# EAGLE library part INT5500 (library Traficon)
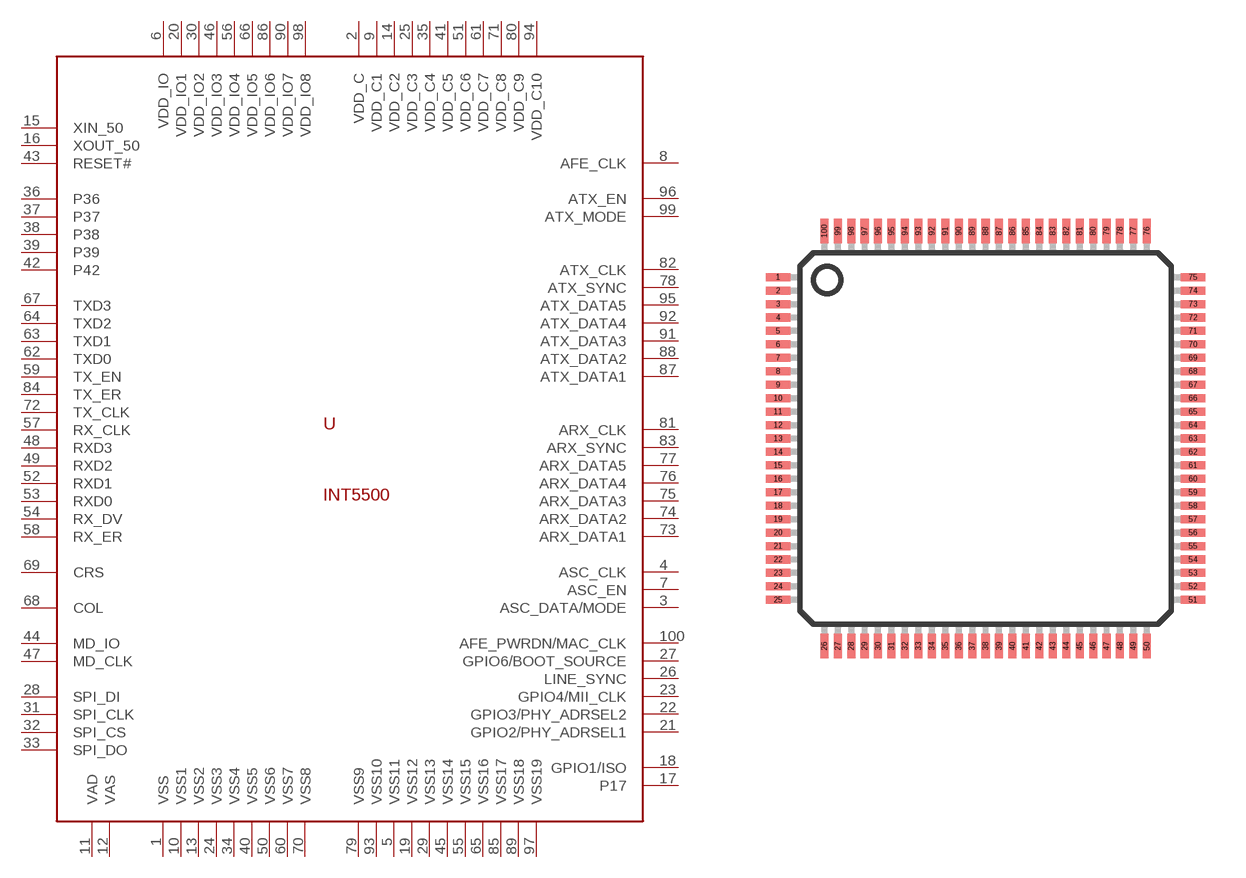
[diagram p226: symbol with the pads of LQFP100; footprint LQFP100]

Designator prefix U

## INT5500  [LQFP100]
1  VSS  pwr
2  VDD_C  pwr
3  ASC_DATA/MODE
4  ASC_CLK
5  VSS11  pwr
6  VDD_IO  pwr
7  ASC_EN
8  AFE_CLK
9  VDD_C1  pwr
10  VSS1  pwr
11  VAD
12  VAS
13  VSS2  pwr
14  VDD_C2  pwr
15  XIN_50
16  XOUT_50
17  P17
18  GPIO1/ISO
19  VSS12  pwr
20  VDD_IO1  pwr
21  GPIO2/PHY_ADRSEL1
22  GPIO3/PHY_ADRSEL2
23  GPIO4/MII_CLK
24  VSS3  pwr
25  VDD_C3  pwr
26  LINE_SYNC
27  GPIO6/BOOT_SOURCE
28  SPI_DI
29  VSS13  pwr
30  VDD_IO2  pwr
31  SPI_CLK
32  SPI_CS
33  SPI_DO
34  VSS4  pwr
35  VDD_C4  pwr
36  P36
37  P37
38  P38
39  P39
40  VSS5  pwr
41  VDD_C5  pwr
42  P42
43  RESET#
44  MD_IO
45  VSS14  pwr
46  VDD_IO3  pwr
47  MD_CLK
48  RXD3
49  RXD2
50  VSS6  pwr
51  VDD_C6  pwr
52  RXD1
53  RXD0
54  RX_DV
55  VSS15  pwr
56  VDD_IO4  pwr
57  RX_CLK
58  RX_ER
59  TX_EN
60  VSS7  pwr
61  VDD_C7  pwr
62  TXD0
63  TXD1
64  TXD2
65  VSS16  pwr
66  VDD_IO5  pwr
67  TXD3
68  COL
69  CRS
70  VSS8  pwr
71  VDD_C8  pwr
72  TX_CLK
73  ARX_DATA1
74  ARX_DATA2
75  ARX_DATA3
76  ARX_DATA4
77  ARX_DATA5
78  ATX_SYNC
79  VSS9  pwr
80  VDD_C9  pwr
81  ARX_CLK
82  ATX_CLK
83  ARX_SYNC
84  TX_ER
85  VSS17  pwr
86  VDD_IO6  pwr
87  ATX_DATA1
88  ATX_DATA2
89  VSS18  pwr
90  VDD_IO7  pwr
91  ATX_DATA3
92  ATX_DATA4
93  VSS10  pwr
94  VDD_C10  pwr
95  ATX_DATA5
96  ATX_EN
97  VSS19  pwr
98  VDD_IO8  pwr
99  ATX_MODE
100  AFE_PWRDN/MAC_CLK

## Footprint LQFP100 (pad centres in mm)
Low Profile Quad Flat Pack
smd 0.9 x 0.3: 1 -7.72,6; 2 -7.72,5.5; 3 -7.72,5; 4 -7.72,4.5; 5 -7.72,4; 6 -7.72,3.5; 7 -7.72,3; 8 -7.72,2.5; 9 -7.72,2; 10 -7.72,1.5; 11 -7.72,1; 12 -7.72,0.5; 13 -7.72,0; 14 -7.72,-0.5; 15 -7.72,-1; 16 -7.72,-1.5; 17 -7.72,-2; 18 -7.72,-2.5; 19 -7.72,-3; 20 -7.72,-3.5; 21 -7.72,-4; 22 -7.72,-4.5; 23 -7.72,-5; 24 -7.72,-5.5; 25 -7.72,-6; 51 7.72,-6; 52 7.72,-5.5; 53 7.72,-5; 54 7.72,-4.5; 55 7.72,-4; 56 7.72,-3.5; 57 7.72,-3; 58 7.72,-2.5; 59 7.72,-2; 60 7.72,-1.5; 61 7.72,-1; 62 7.72,-0.5; 63 7.72,0; 64 7.72,0.5; 65 7.72,1; 66 7.72,1.5; 67 7.72,2; 68 7.72,2.5; 69 7.72,3; 70 7.72,3.5; 71 7.72,4; 72 7.72,4.5; 73 7.72,5; 74 7.72,5.5; 75 7.72,6
smd 0.3 x 0.9: 26 -6,-7.72; 27 -5.5,-7.72; 28 -5,-7.72; 29 -4.5,-7.72; 30 -4,-7.72; 31 -3.5,-7.72; 32 -3,-7.72; 33 -2.5,-7.72; 34 -2,-7.72; 35 -1.5,-7.72; 36 -1,-7.72; 37 -0.5,-7.72; 38 0,-7.72; 39 0.5,-7.72; 40 1,-7.72; 41 1.5,-7.72; 42 2,-7.72; 43 2.5,-7.72; 44 3,-7.72; 45 3.5,-7.72; 46 4,-7.72; 47 4.5,-7.72; 48 5,-7.72; 49 5.5,-7.72; 50 6,-7.72; 76 6,7.72; 77 5.5,7.72; 78 5,7.72; 79 4.5,7.72; 80 4,7.72; 81 3.5,7.72; 82 3,7.72; 83 2.5,7.72; 84 2,7.72; 85 1.5,7.72; 86 1,7.72; 87 0.5,7.72; 88 0,7.72; 89 -0.5,7.72; 90 -1,7.72; 91 -1.5,7.72; 92 -2,7.72; 93 -2.5,7.72; 94 -3,7.72; 95 -3.5,7.72; 96 -4,7.72; 97 -4.5,7.72; 98 -5,7.72; 99 -5.5,7.72; 100 -6,7.72